# EAGLE library part ATSAMD21G18 (library jack)
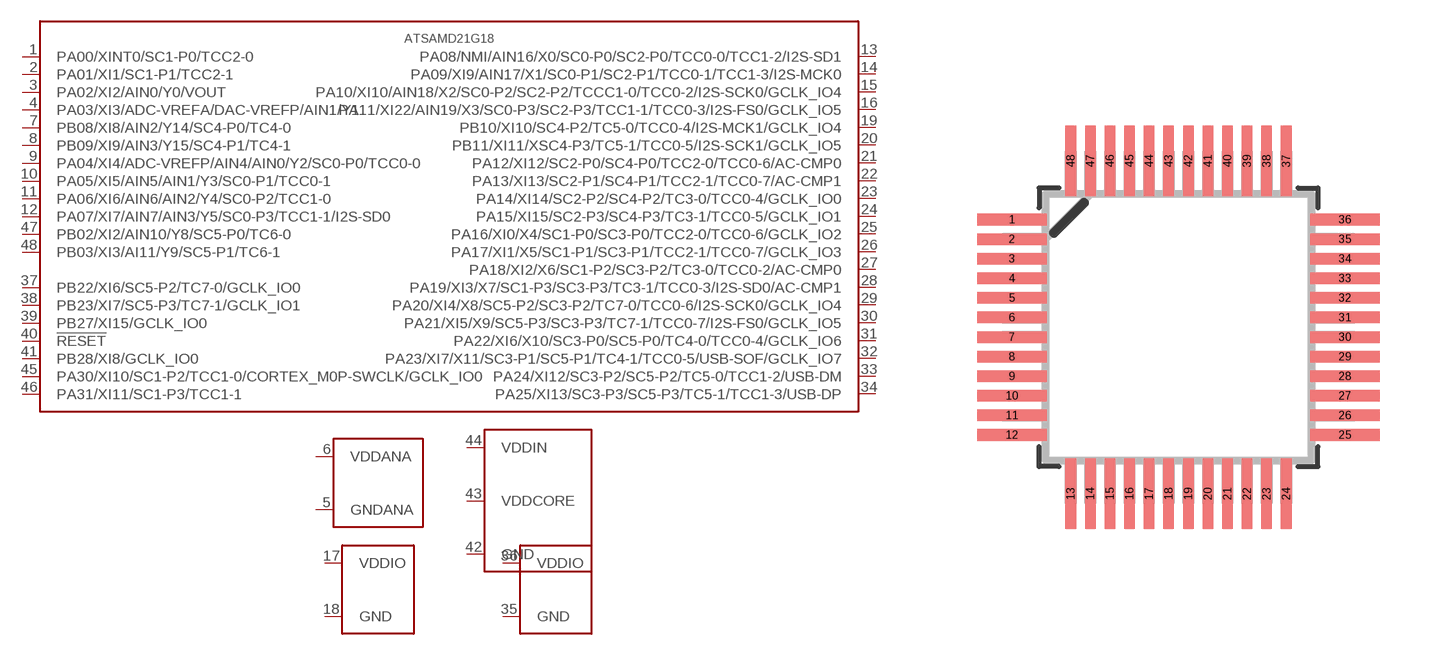
[diagram p0: symbol with the pads of TQFP48; footprint TQFP48]

Designator prefix IC; gates IO=ATSAMD21G18-IO PWR-ANA=ATSAMD21G18-PWR-ANA PWR-IN-CORE=ATSAMD21G18-PWR-IN-CORE PWR-IO1=ATSAMD21G18-PWR-IO PWR-IO2=ATSAMD21G18-PWR-IO

## ATSAMD21G18  [TQFP48]
1  IO:PA00/XINT0/SC1-P0/TCC2-0
2  IO:PA01/XI1/SC1-P1/TCC2-1
3  IO:PA02/XI2/AIN0/Y0/VOUT
4  IO:PA03/XI3/ADC-VREFA/DAC-VREFP/AIN1/Y1
5  PWR-ANA:GNDANA  sup
6  PWR-ANA:VDDANA  pwr
7  IO:PB08/XI8/AIN2/Y14/SC4-P0/TC4-0
8  IO:PB09/XI9/AIN3/Y15/SC4-P1/TC4-1
9  IO:PA04/XI4/ADC-VREFP/AIN4/AIN0/Y2/SC0-P0/TCC0-0
10  IO:PA05/XI5/AIN5/AIN1/Y3/SC0-P1/TCC0-1
11  IO:PA06/XI6/AIN6/AIN2/Y4/SC0-P2/TCC1-0
12  IO:PA07/XI7/AIN7/AIN3/Y5/SC0-P3/TCC1-1/I2S-SD0
13  IO:PA08/NMI/AIN16/X0/SC0-P0/SC2-P0/TCC0-0/TCC1-2/I2S-SD1
14  IO:PA09/XI9/AIN17/X1/SC0-P1/SC2-P1/TCC0-1/TCC1-3/I2S-MCK0
15  IO:PA10/XI10/AIN18/X2/SC0-P2/SC2-P2/TCCC1-0/TCC0-2/I2S-SCK0/GCLK_IO4
16  IO:PA11/XI22/AIN19/X3/SC0-P3/SC2-P3/TCC1-1/TCC0-3/I2S-FS0/GCLK_IO5
17  PWR-IO1:VDDIO  pwr
18  PWR-IO1:GND  sup
19  IO:PB10/XI10/SC4-P2/TC5-0/TCC0-4/I2S-MCK1/GCLK_IO4
20  IO:PB11/XI11/XSC4-P3/TC5-1/TCC0-5/I2S-SCK1/GCLK_IO5
21  IO:PA12/XI12/SC2-P0/SC4-P0/TCC2-0/TCC0-6/AC-CMP0
22  IO:PA13/XI13/SC2-P1/SC4-P1/TCC2-1/TCC0-7/AC-CMP1
23  IO:PA14/XI14/SC2-P2/SC4-P2/TC3-0/TCC0-4/GCLK_IO0
24  IO:PA15/XI15/SC2-P3/SC4-P3/TC3-1/TCC0-5/GCLK_IO1
25  IO:PA16/XI0/X4/SC1-P0/SC3-P0/TCC2-0/TCC0-6/GCLK_IO2
26  IO:PA17/XI1/X5/SC1-P1/SC3-P1/TCC2-1/TCC0-7/GCLK_IO3
27  IO:PA18/XI2/X6/SC1-P2/SC3-P2/TC3-0/TCC0-2/AC-CMP0
28  IO:PA19/XI3/X7/SC1-P3/SC3-P3/TC3-1/TCC0-3/I2S-SD0/AC-CMP1
29  IO:PA20/XI4/X8/SC5-P2/SC3-P2/TC7-0/TCC0-6/I2S-SCK0/GCLK_IO4
30  IO:PA21/XI5/X9/SC5-P3/SC3-P3/TC7-1/TCC0-7/I2S-FS0/GCLK_IO5
31  IO:PA22/XI6/X10/SC3-P0/SC5-P0/TC4-0/TCC0-4/GCLK_IO6
32  IO:PA23/XI7/X11/SC3-P1/SC5-P1/TC4-1/TCC0-5/USB-SOF/GCLK_IO7
33  IO:PA24/XI12/SC3-P2/SC5-P2/TC5-0/TCC1-2/USB-DM
34  IO:PA25/XI13/SC3-P3/SC5-P3/TC5-1/TCC1-3/USB-DP
35  PWR-IO2:GND  sup
36  PWR-IO2:VDDIO  pwr
37  IO:PB22/XI6/SC5-P2/TC7-0/GCLK_IO0
38  IO:PB23/XI7/SC5-P3/TC7-1/GCLK_IO1
39  IO:PB27/XI15/GCLK_IO0
40  IO:!RESET
41  IO:PB28/XI8/GCLK_IO0
42  PWR-IN-CORE:GND  sup
43  PWR-IN-CORE:VDDCORE  sup
44  PWR-IN-CORE:VDDIN  pwr
45  IO:PA30/XI10/SC1-P2/TCC1-0/CORTEX_M0P-SWCLK/GCLK_IO0
46  IO:PA31/XI11/SC1-P3/TCC1-1
47  IO:PB02/XI2/AIN10/Y8/SC5-P0/TC6-0
48  IO:PB03/XI3/AI11/Y9/SC5-P1/TC6-1

## Footprint TQFP48 (pad centres in mm)
TQFP48 Auto generated by make-symbol-device-package-bsdl.ulp Rev. 44
smd 1.8 x 0.3: 1 -4.25,2.75; 2 -4.25,2.25; 3 -4.25,1.75; 4 -4.25,1.25; 5 -4.25,0.75; 6 -4.25,0.25; 7 -4.25,-0.25; 8 -4.25,-0.75; 9 -4.25,-1.25; 10 -4.25,-1.75; 11 -4.25,-2.25; 12 -4.25,-2.75; 25 4.25,-2.75; 26 4.25,-2.25; 27 4.25,-1.75; 28 4.25,-1.25; 29 4.25,-0.75; 30 4.25,-0.25; 31 4.25,0.25; 32 4.25,0.75; 33 4.25,1.25; 34 4.25,1.75; 35 4.25,2.25; 36 4.25,2.75
smd 0.3 x 1.8: 13 -2.75,-4.25; 14 -2.25,-4.25; 15 -1.75,-4.25; 16 -1.25,-4.25; 17 -0.75,-4.25; 18 -0.25,-4.25; 19 0.25,-4.25; 20 0.75,-4.25; 21 1.25,-4.25; 22 1.75,-4.25; 23 2.25,-4.25; 24 2.75,-4.25; 37 2.75,4.25; 38 2.25,4.25; 39 1.75,4.25; 40 1.25,4.25; 41 0.75,4.25; 42 0.25,4.25; 43 -0.25,4.25; 44 -0.75,4.25; 45 -1.25,4.25; 46 -1.75,4.25; 47 -2.25,4.25; 48 -2.75,4.25